# Altium footprint library Crystal - Oscillator.PcbLib: 4 footprints
Each footprint in its own frame and in the unit in brackets; x right, y up, seen from the top. Pads: shape width x height; smd on the part's side, far side on the other; paste and mask are expansions set on the pad; w line width, h text height; cw(c..) or ccw(c..) is an arc to the next point about the centre after c.
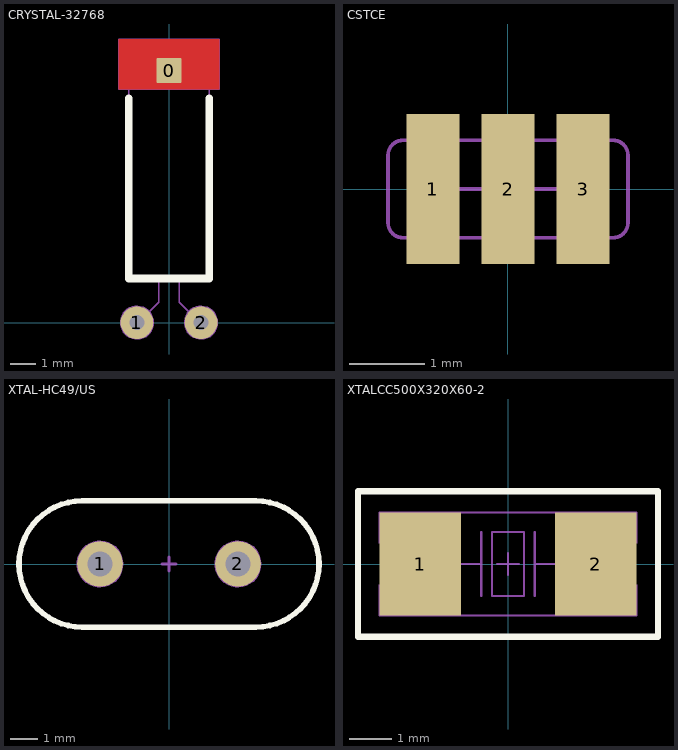
[diagram p0: the footprints below, top view; thin cyan lines are the x and y axes]

## CRYSTAL-32768 [mm] "32.768 KHz LOW FREQUENCY CYLINDRICALWATCH CRYSTAL"
height 1.5
pads (3):
  rrect10% 1x1 smd mask+0.1: 0(0,10)
  round 1.3 hole 0.6 mask+0.1: 1(-1.27,0) 2(1.27,0)
Top Layer:
  region: -2,9.25 -2,11.25 2,11.25 2,9.25
Top Overlay:
  lines w0.3: -1.59,8.9 -1.59,1.75 1.59,1.75 1.59,8.9
Top HCB:
  circle w0.05: c-1.27,0 r0.65
  circle w0.05: c1.27,0 r0.65
  lines w0.05: -0.775,0.425 -0.4,0.8 -0.4,1.75 ; 0.4,1.75 0.4,0.8 0.775,0.425 ; -2,9.25 -2,11.25 2,11.25 2,9.25 -2,9.25 ; -1.59,1.75 1.59,1.75 1.59,10.25 -1.59,10.25 -1.59,1.75
3D body "User Library-Crystal TH.step": height 3.2, standoff 0, extent -1.725,-0.6 1.725,10.175

## CSTCE [mm]
height 0.9
pads (3):
  rect 0.7x2 smd: 1(-1,0) 2(0,0) 3(1,0)
Top HCB:
  lines w0.05: -0.3,-0.45 -0.3,0.4 ; -0.3,0 -1,0 ; -0.1,0 0.1,0 ; 0,-0.1 0,0.1 ; 0.3,-0.45 0.3,0.4 ; 0.3,0 1,0 ; -1,0 -1,0 ; -1.6,-0.45 ccw(c-1.4,-0.45) -1.4,-0.65 1.4,-0.65 ccw(c1.4,-0.45) 1.6,-0.45 1.6,0.45 ccw(c1.4,0.45) 1.4,0.65 -1.4,0.65 ccw(c-1.4,0.45) -1.6,0.45 -1.6,0 -1.6,-0.45 ; -0.2,-0.45 0.2,-0.45 0.2,0.4 -0.2,0.4 -0.2,-0.45
3D body "User Library-Resonators(CSTCE16M0V53-R0).STEP": height 0.9, standoff 0, extent -1.6,-0.65 1.6,0.65

## XTAL-HC49/US [mm] "CRYSTAL"
height 3.5
pads (2):
  round 1.65 hole 0.9 mask+0.1: 1(-2.5,0.001) 2(2.5,0.001)
Top Overlay:
  lines w0.2: -3.15,-2.286 cw(c-3.15,0) -3.15,2.286 3.15,2.286 cw(c3.15,0) 3.15,-2.286 -3.15,-2.286
Top HCB:
  circle w0.05: c2.5,0.001 r0.825
  circle w0.05: c-2.5,0.001 r0.825
  lines w0.1: -0.25,0 0.25,0 ; 0,-0.25 0,0.25
3D body "ABL.STEP": height 3.25, standoff -5.75, extent -5.75,-2.5 5.75,2.5

## XTALCC500X320X60-2 [mm] "XTALCC500X320X60-2"
pads (2):
  rect 1.9x2.4 smd: 1(-2.05,0) 2(2.05,0)
Top Overlay:
  lines w0.15: -3.5,-1.7 3.5,-1.7 3.5,1.7 -3.5,1.7 -3.5,-1.7
Top HCB:
  lines w0.05: -3,-0.85 -3,-0.75 -1.9,-0.75 ccw(c-1.9,-0.65) -1.8,-0.65 -1.8,0.75 ccw(c-1.9,0.75) -1.9,0.85 -3,0.85 ; -1.8,0 -1.1,0 -0.625,0 ; -0.625,-0.75 -0.625,0.75 ; -0.25,0 0.25,0 ; 0,-0.25 0,0.25 ; 0.625,-0.75 0.625,0.75 ; 0.625,0 1.1,0 1.8,0 ; 3,-0.75 1.9,-0.75 cw(c1.9,-0.65) 1.8,-0.65 1.8,0.75 cw(c1.9,0.75) 1.9,0.85 3,0.85 ; -3,-0.5 ccw(c-3,-0.3) -2.8,-0.3 -2.8,0 -2.8,0.3 ccw(c-3,0.3) -3,0.5 ; -3,-0.5 ccw(c-3,-0.5) -3,-0.5 ; -3,-0.5 -3,-1.2 -1.1,-1.2 3,-1.2 3,-0.5 ; -3,0.5 ccw(c-3,0.5) -3,0.5 ; -3,0.5 -3,1.2 -1.1,1.2 3,1.2 3,0.5 ; 3,-0.5 ccw(c3,-0.5) 3,-0.5 ; 3,-0.5 cw(c3,-0.3) 2.8,-0.3 2.8,0 2.8,0.3 cw(c3,0.3) 3,0.5 ; 3,0.5 ccw(c3,0.5) 3,0.5 ; -0.375,-0.75 0.375,-0.75 0.375,0.75 -0.375,0.75 -0.375,-0.75
3D body "User Library-ABM3-1.STEP": height 1.3, standoff 0, extent -2.5,-1.6 2.5,1.6